# Altium schematic symbol library Vishay.SchLib: 2 symbols
Pins are listed as number, name and electrical type; pins without a type are passive.

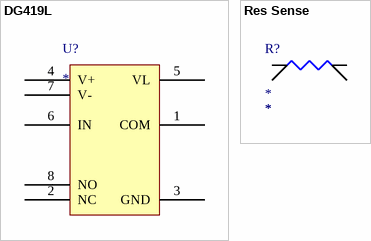
[diagram p0: symbols DG419L to Res Sense]

## DG419L
designator U?
pins: 1 COM, 2 NC, 3 GND, 4 V+, 5 VL, 6 IN, 7 V-, 8 NO

## Res Sense
designator R?  (value not drawn)
Power - Rated: *; Value: *; Tolerance: *
pins: 1 I1, 2 I2, 3 S2, 4 S1